# Altium footprint library WURTH_7443641500.PcbLib: 1 footprints
Each footprint in its own frame and in the unit in brackets; x right, y up, seen from the top. Pads: shape width x height; smd on the part's side, far side on the other; paste and mask are expansions set on the pad; w line width, h text height; cw(c..) or ccw(c..) is an arc to the next point about the centre after c.
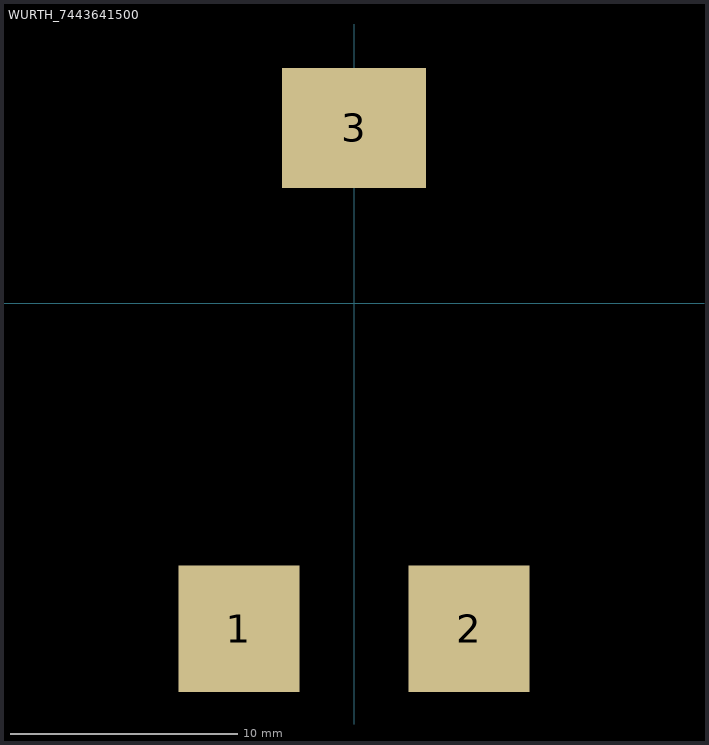
[diagram p0: the footprint, top view; thin cyan lines are the x and y axes]

## WURTH_7443641500 [mm] "Wurth Surface Mount Inductor 7443641500"
pads (3):
  rect 5.33x5.59 smd: 1(-5.075,-14.355) 2(5.075,-14.355)
  rect 6.35x5.28 smd: 3(0,7.72)
3D body "WURTH_7443641500.SLDPRT": height 18.5, standoff 0, extent -14,-16.5 14,10.8